# Altium integrated library Resistor 0402 10K.IntLib: 1 symbol
Pins are listed as number, name and electrical type; pins without a type are passive.

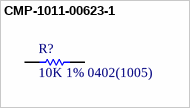
[diagram p0: symbol CMP-1011-00623-1]

## CMP-1011-00623-1
designator R?, comment 10K 1% 0402(1005)
10K 0.063W 1% 0402 (1005 Metric)  SMD; Case-Metric: 1005; Value: 10000.00 Ohm; Case-EIA: 0402; Tolerance: 1 %; Technology: SMT; Power: 0.063 W
footprint RESC0402(1005)_L (Chip Resistor, Body 1.0x0.5mm, IPC High Density)
footprint RESC0402(1005)_N (Chip Resistor, Body 1.0x0.5mm, IPC Medium Density)
footprint RESC0402(1005)_M (Chip Resistor, Body 1.0x0.5mm, IPC Low Density)
pins: 1, 2
1 alternate drawing of the same symbol